# Altium schematic symbol library VEML7700-TT.SCHLIB: 1 symbol
Pins are listed as number, name and electrical type; pins without a type are passive.

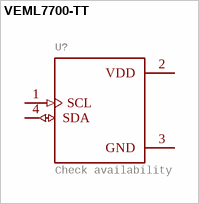
[diagram p0: symbol VEML7700-TT]

## VEML7700-TT
designator U?, comment Check availability
GateName_1: G$1; SymbolName_1: VEML7700-TT; MF: Vishay Semiconductor; LibraryName: VEML7700-TT; DeviceSetName: VEML7700-TT; Package: XDCR_VEML7700-TT; Package: SMD-4 Vishay Semiconductor; Price: None; Check_prices: https://www.snapeda.com/parts/VEML7700-TT/Vishay+Semiconductor+Opto+Division/view-part/?ref=eda; SnapEDA_Link: https://www.snapeda.com/parts/VEML7700-TT/Vishay+Semiconductor+Opto+Division/view-part/?ref=snap; MP: VEML7700-TT; Availability: In Stock; Purchase-URL: https://www.snapeda.com/api/url_track_click_mouser/?unipart_id=534245&manufacturer=Vishay Semiconductor&part_name=VEML7700-TT&search_term=veml7700
footprint XDCR_VEML7700-TT
pins: 1 SCL (in), 2 VDD (power), 3 GND (power), 4 SDA (io)